# Altium integrated library MC9S08PA16VTJ.IntLib: 1 symbol
Pins are listed as number, name and electrical type; pins without a type are passive.

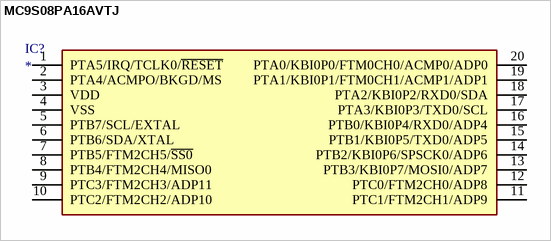
[diagram p0: symbol MC9S08PA16AVTJ]

## MC9S08PA16AVTJ
designator IC?
Integrated Circuit
footprint SOP65P640X120-16N
pins: 1 PTA5/IRQ/TCLK0/~{RESET}, 2 PTA4/ACMPO/BKGD/MS, 3 VDD, 4 VSS, 5 PTB7/SCL/EXTAL, 6 PTB6/SDA/XTAL, 7 PTB5/FTM2CH5/~{SS0}, 8 PTB4/FTM2CH4/MISO0, 9 PTC3/FTM2CH3/ADP11, 10 PTC2/FTM2CH2/ADP10, 11 PTC1/FTM2CH1/ADP9, 12 PTC0/FTM2CH0/ADP8, 13 PTB3/KBI0P7/MOSI0/ADP7, 14 PTB2/KBI0P6/SPSCK0/ADP6, 15 PTB1/KBI0P5/TXD0/ADP5, 16 PTB0/KBI0P4/RXD0/ADP4, 17 PTA3/KBI0P3/TXD0/SCL, 18 PTA2/KBI0P2/RXD0/SDA, 19 PTA1/KBI0P1/FTM0CH1/ACMP1/ADP1, 20 PTA0/KBI0P0/FTM0CH0/ACMP0/ADP0